# Altium schematic symbol library ICs-MotorDrivers.SchLib: 4 symbols
Pins are listed as number, name and electrical type; pins without a type are passive.

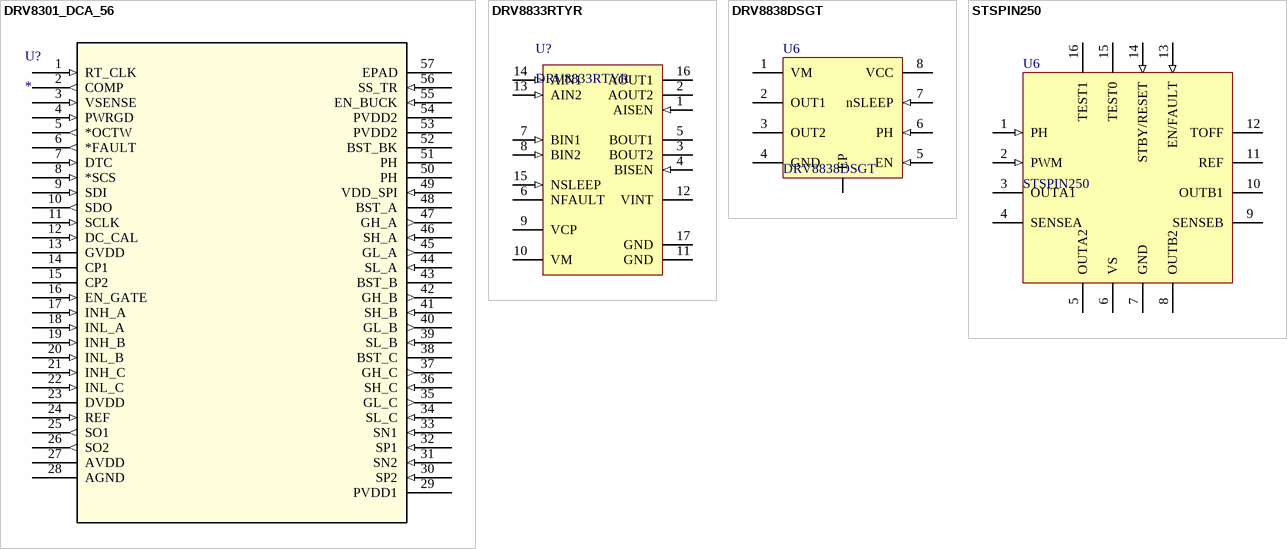
[diagram p0: symbols DRV8301_DCA_56 to STSPIN250]

## DRV8301_DCA_56
designator U?
Imported; Manufacturer: Texas Instruments; GENERIC_PART_NUMBER: DRV8301; PartNumber: DRV8301_DCA; FAMILY_NAME: 3-PHASE BRUSHLESS PRE-DRIVER; PIN_COUNT: 56; PACKAGE_DESIGNATOR: DCA; Datasheet_URL: http://www.ti.com/lit/gpn/DRV8301; PackageReference: HTSSOP; Vendor: Texas Instruments; Value: Value; Type: Type; RefDes: RefDes
footprint DCA56_6P35X3P61
pins: 1 RT_CLK (in), 2 COMP (out), 3 VSENSE (in), 4 PWRGD (in), 5 *OCTW (out), 6 *FAULT (out), 7 DTC (in), 8 *SCS (in), 9 SDI (in), 10 SDO (out), 11 SCLK (in), 12 DC_CAL (in), 13 GVDD (power), 14 CP1 (power), 15 CP2 (power), 16 EN_GATE (in), 17 INH_A (in), 18 INL_A (in), 19 INH_B (in), 20 INL_B (in), 21 INH_C (in), 22 INL_C (in), 23 DVDD (power), 24 REF (in), 25 SO1 (out), 26 SO2 (out), 27 AVDD (power), 28 AGND (power), 29 PVDD1 (power), 30 SP2 (in), 31 SN2 (in), 32 SP1 (in), 33 SN1 (in), 34 SL_C (in), 35 GL_C (out), 36 SH_C (in), 37 GH_C (out), 38 BST_C (power), 39 SL_B (in), 40 GL_B (out), 41 SH_B (in), 42 GH_B (out), 43 BST_B (power), 44 SL_A (in), 45 GL_A (out), 46 SH_A (in), 47 GH_A (out), 48 BST_A (power), 49 VDD_SPI (in), 50 PH, 51 PH, 52 BST_BK (power), 53 PVDD2 (power), 54 PVDD2 (power), 55 EN_BUCK (in), 56 SS_TR (in), 57 EPAD

## DRV8833RTYR
designator U?
Manufacturer: Texas Instruments; PartNumber: DRV8833RTYR; Mounting Technology: Surface Mount; PackageReference: QFN-16
footprint QFN-16 (0.65mm) (QFN, 16-Leads, Body 4.00x4.00mm, Pitch 0.65mm, Thermal Pad 2.10x2.10mm, IPC Medium Density)
pins: 1 AISEN (in) "Bridge A ground / Isense", 2 AOUT2 (hiz) "Bridge A output 2", 3 BOUT2 (hiz) "Bridge B output 2", 4 BISEN (in) "Bridge B ground / Isense", 5 BOUT1 (hiz) "Bridge B output 1", 6 NFAULT (oc) "Fault output", 7 BIN1 (in) "Bridge B input 1", 8 BIN2 (in) "Bridge B input 2", 9 VCP "High-side gate drive voltage", 10 VM (power) "Device power supply", 11 GND (power) "Device ground", 12 VINT "Internal supply bypass", 13 AIN2 (in) "Bridge A input 2", 14 AIN1 (in) "Bridge A input 1", 15 NSLEEP (in) "Sleep mode input", 16 AOUT1 (hiz) "Bridge A output 1", 17 GND (power)

## DRV8838DSGT
designator U6
Half Bridge (2) Driver DC Motors, Solenoids NMOS 8-WSON (2x2); Manufacturer: Texas Instruments; PartNumber: DRV8838DSGT; Mounting Technology: Surface Mount; PackageReference: WSON-8
footprint WSON-8 (SON, 8-Leads, Body 2.00x2.00mm, Pitch 0.50mm, Thermal Pad 1.60x0.69mm, IPC Medium Density)
pins: 1 VM (power) "Motor speed indication output", 2 OUT1 (hiz) "Internal regulator output (for decoupling only)", 3 OUT2 (hiz) "Single-phase coil output pin", 4 GND (power) "Negative voltage supply (ground)", 5 EN (in) "PWM input signal for speed control", 6 PH (in) "Positive voltage supply for motor driver", 7 nSLEEP (in) "Single-phase coil output pin", 8 VCC (power) "Single-phase coil output pin", 9 EP

## STSPIN250
designator U6
Manufacturer: STMicroelectronics; PartNumber: STSPIN250; Mounting Technology: Surface Mount; PackageReference: QFN-16
footprint QFN-16 (QFN, 16-Leads, Body 3.00x3.00mm, Pitch 0.50mm, Thermal Pad 1.80x1.80mm, IPC Medium Density); pin to pad 7>7+17
pins: 1 PH (in) "Positive voltage supply for motor driver", 2 PWM (in) "PWM input signal for speed control", 3 OUTA1 (hiz), 4 SENSEA (hiz), 5 OUTA2 (power), 6 VS (power), 7 GND (power), 8 OUTB2 (hiz), 9 SENSEB (hiz) "Internal regulator output (for decoupling only)", 10 OUTB1 (hiz), 11 REF (hiz), 12 TOFF (hiz), 13 EN/FAULT (in) "Single-phase coil output pin", 14 STBY/RESET (in) "Single-phase coil output pin", 15 TEST0 (power) "Single-phase coil output pin", 16 TEST1 (power) "Single-phase coil output pin"